# EAGLE library part LTC3536 (library iridia)
LTC3536 1A Low Noise, Buck-Boost DC/DC Converter
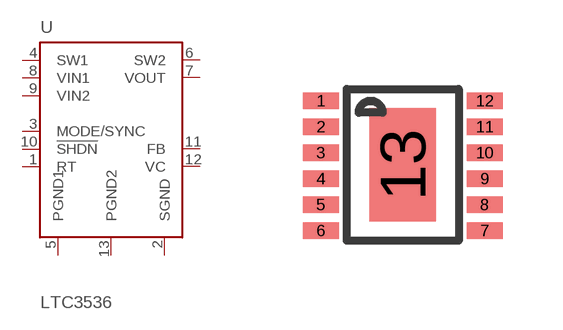
[diagram p11: symbol with the pads of MSOP12-EP; footprint MSOP12-EP]

Designator prefix -

## LTC3536  [MSOP12-EP]
1  RT
2  SGND  pwr
3  MODE/SYNC
4  SW1  pwr
5  PGND1  pwr
6  SW2  pwr
7  VOUT  pwr
8  VIN1  in
9  VIN2  in
10  !SHDN
11  FB
12  VC
13  PGND2  pwr

## Footprint MSOP12-EP (pad centres in mm)
10-Lead Mini Small Outline Package [MSOP] (RM-10) Source: http://www.analog.com/UploadedFiles/Data_Sheets/35641221898805SSM2167_b.pdf COMPLIANT TO JEDEC STANDARDS MO-187BA
smd 0.9 x 0.42: 1 -2.05,1.6; 2 -2.05,0.95; 3 -2.05,0.3; 4 -2.05,-0.35; 5 -2.05,-1; 6 -2.05,-1.65; 7 2.05,-1.65; 8 2.05,-1; 9 2.05,-0.35; 10 2.05,0.3; 11 2.05,0.95; 12 2.05,1.6
smd 1.651 x 2.845: 13 0,0